# Altium integrated library NSC Power Mgt DC-DC Converter.IntLib: 2 symbols
Pins are listed as number, name and electrical type; pins without a type are passive.

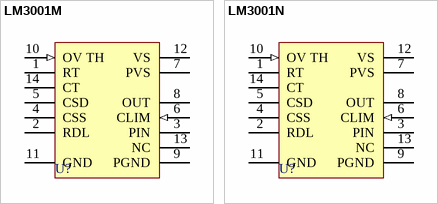
[diagram p0: symbols LM3001M to LM3001N]

## LM3001M
designator U?
Primary-Side PWM Driver; Published: 15-Apr-2002; LatestRevisionDate: 13-Apr-2006; LatestRevisionNote: IPC-7351 Footprint Added.; DatasheetVersion: Oct-1993; PackageVersion: 2000; PackageReference: M14B; Publisher: Altium Limited; PackageDescription: 14-Pin Small Outline Integrated Circuit 1.27 mm Pitch; Code_JEDEC: MS-013-AF; Code_IPC: SOIC127P1030-14; ComponentLink1Description: Manufacturer Link; ComponentLink1URL: http://www.national.com/
footprint M14B_N (SOIC, 14-Leads, Body 9x7.5mm, Pitch 1.27mm, IPC Medium Density)
footprint M14B_L (SOIC, 14-Leads, Body 9x7.5mm, Pitch 1.27mm, IPC High Density)
footprint M14B_M (SOIC, 14-Leads, Body 9x7.5mm, Pitch 1.27mm, IPC Low Density)
3D model M14B (14-Pin Small Outline Integrated Circuit 1.27 mm Pitch)
pins: 1 RT, 2 RDL, 3 PIN (power), 4 CSS, 5 CSD, 6 CLIM (in), 7 PVS (power), 8 OUT (power), 9 PGND (power), 10 OV TH (in), 11 GND (power), 12 VS (power), 13 NC, 14 CT

## LM3001N
designator U?
Primary-Side PWM Driver; Published: 15-Apr-2002; LatestRevisionDate: 06-Jun-2005; LatestRevisionNote: Stylized 3D Model Added.; DatasheetVersion: Oct-1993; PackageVersion: 2000; PackageReference: N14A; Publisher: Altium Limited; PackageDescription: DIP; 14 Leads; Row Spacing 7.62 mm; Pitch 2.54 mm; ComponentLink1Description: Manufacturer Link; ComponentLink1URL: http://www.national.com/
footprint N14A (DIP; 14 Leads; Row Spacing 7.62 mm; Pitch 2.54 mm)
3D model N14A (DIP; 14 Leads; Row Spacing 7.62 mm; Pitch 2.54 mm)
pins: 1 RT, 2 RDL, 3 PIN (power), 4 CSS, 5 CSD, 6 CLIM (in), 7 PVS (power), 8 OUT (power), 9 PGND (power), 10 OV TH (in), 11 GND (power), 12 VS (power), 13 NC, 14 CT